# EAGLE library part CSD19538Q2 (library SON45P300X300X80-13N)
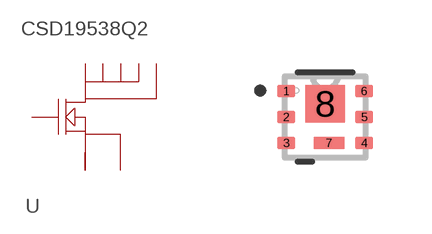
[diagram p1: symbol with the pads of DQK0006C; footprint DQK0006C]

Designator prefix -

## CSD19538Q2 (BUILT_BY: Texas_Instrument_Team; MANUFACTURER_PART_NUMBER: CSD19538Q2; VENDOR: Texas Instruments)  [DQK0006C]
1  DRAIN_1  pas
2  DRAIN_2  pas
3  GATE  pas
4  SOURCE_2  pas
5  DRAIN_3  pas
6  DRAIN_4  pas
7  SOURCE_1  pas
8  DRAIN_5  pas

## Footprint DQK0006C (pad centres in mm)
smd 0.457 x 0.305: 1 -0.975,0.65; 2 -0.975,0; 3 -0.975,-0.65; 4 0.975,-0.65; 5 0.975,0; 6 0.975,0.65
smd 0.762 x 0.305: 7 0.095,-0.65
smd 0.991 x 0.94: 8 0,0.325